# EAGLE library part MCP6002 (library uRings_SE_Library)
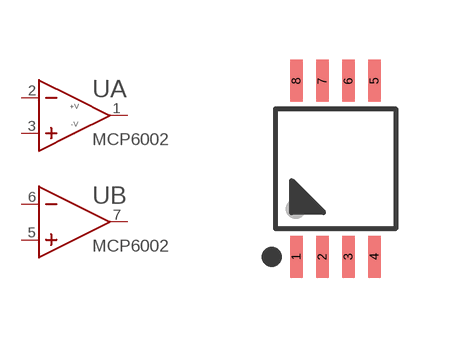
[diagram p2: symbol with the pads of MSOP-8; footprint MSOP-8]

Designator prefix U; gates B=OPAMP A=OPAMP-PWR

## MCP6002  [MSOP-8]
1  A:OUT  out
2  A:IN-  in
3  A:IN+  in
4  A:NEG  pwr
5  B:+  in
6  B:-  in
7  B:OUT  out
8  A:POS  pwr

## Footprint MSOP-8 (pad centres in mm)
smd 0.32 x 1.05: 1 -0.975,-2.2; 2 -0.325,-2.2; 3 0.325,-2.2; 4 0.975,-2.2; 5 0.975,2.2; 6 0.325,2.2; 7 -0.325,2.2; 8 -0.975,2.2